# EAGLE library part MT9V111 (library Traficon)
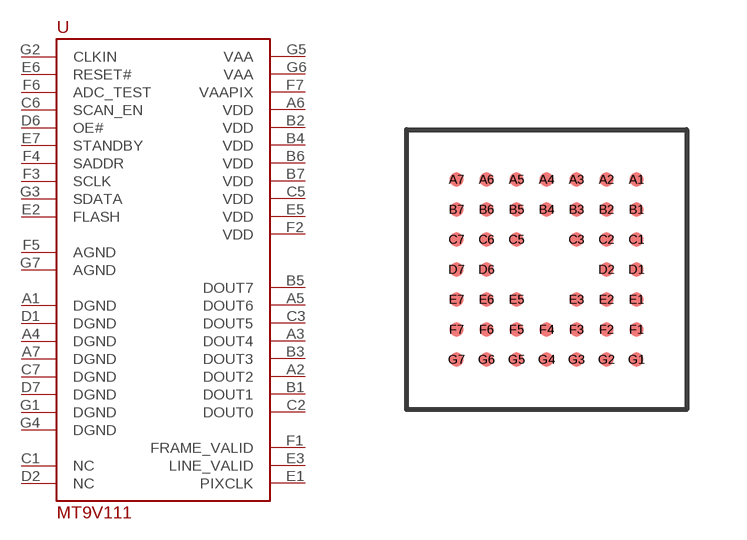
[diagram p177: symbol with the pads of ICSP44; footprint ICSP44]

Designator prefix U

## MT9V111  [ICSP44]
A1  DGND  pwr
A2  DOUT2  out
A3  DOUT4  out
A4  DGND  pwr
A5  DOUT6  out
A6  VDD  pwr
A7  DGND  pwr
B1  DOUT1  out
B2  VDD  pwr
B3  DOUT3  out
B4  VDD  pwr
B5  DOUT7  out
B6  VDD  pwr
B7  VDD  pwr
C1  NC  nc
C2  DOUT0  out
C3  DOUT5  out
C5  VDD  pwr
C6  SCAN_EN  in
C7  DGND  pwr
D1  DGND  pwr
D2  NC  nc
D6  OE#  in
D7  DGND  pwr
E1  PIXCLK  out
E2  FLASH  out
E3  LINE_VALID  out
E5  VDD  pwr
E6  RESET#  in
E7  STANDBY  in
F1  FRAME_VALID  out
F2  VDD  pwr
F3  SCLK  in
F4  SADDR  in
F5  AGND  pwr
F6  ADC_TEST  in
F7  VAAPIX  pwr
G1  DGND  pwr
G2  CLKIN  in
G3  SDATA
G4  DGND  pwr
G5  VAA  pwr
G6  VAA  pwr
G7  AGND  pwr

## Footprint ICSP44 (pad centres in mm)
smd 0.35 x 0.35: A1 2.25,2.25; A2 1.5,2.25; A3 0.75,2.25; A4 0,2.25; A5 -0.75,2.25; A6 -1.5,2.25; A7 -2.25,2.25; B1 2.25,1.5; B2 1.5,1.5; B3 0.75,1.5; B4 0,1.5; B5 -0.75,1.5; B6 -1.5,1.5; B7 -2.25,1.5; C1 2.25,0.75; C2 1.5,0.75; C3 0.75,0.75; C5 -0.75,0.75; C6 -1.5,0.75; C7 -2.25,0.75; D1 2.25,0; D2 1.5,0; D6 -1.5,0; D7 -2.25,0; E1 2.25,-0.75; E2 1.5,-0.75; E3 0.75,-0.75; E5 -0.75,-0.75; E6 -1.5,-0.75; E7 -2.25,-0.75; F1 2.25,-1.5; F2 1.5,-1.5; F3 0.75,-1.5; F4 0,-1.5; F5 -0.75,-1.5; F6 -1.5,-1.5; F7 -2.25,-1.5; G1 2.25,-2.25; G2 1.5,-2.25; G3 0.75,-2.25; G4 0,-2.25; G5 -0.75,-2.25; G6 -1.5,-2.25; G7 -2.25,-2.25